# Altium schematic symbol library CDP_TEENSY41.SchLib: 1 symbol
Pins are listed as number, name and electrical type; pins without a type are passive.

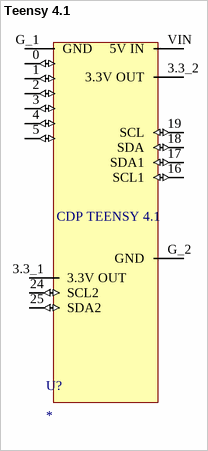
[diagram p0: symbol Teensy 4.1]

## Teensy 4.1
designator U?
Teensy 4.1 Microcontroller; ComponentLink1Description: New link; ComponentLink1URL: *
footprint Teensy 4.1 (CDP Microcontroller)
pins: 0 (io), 1 (io), 2 (io), 3 (io), 3.3_1 3.3V OUT (power), 3.3_2 3.3V OUT (power), 4 (io), 5 (io), 16 SCL1 (io), 17 SDA1 (io), 18 SDA (io), 19 SCL (io), 24 SCL2 (io), 25 SDA2 (io), G_1 GND (power), G_2 GND (power), VIN 5V IN (power)
text: CDP TEENSY 4.1